# Altium footprint library LED.PcbLib: 3 footprints
Each footprint in its own frame and in the unit in brackets; x right, y up, seen from the top. Pads: shape width x height; smd on the part's side, far side on the other; paste and mask are expansions set on the pad; w line width, h text height; cw(c..) or ccw(c..) is an arc to the next point about the centre after c.
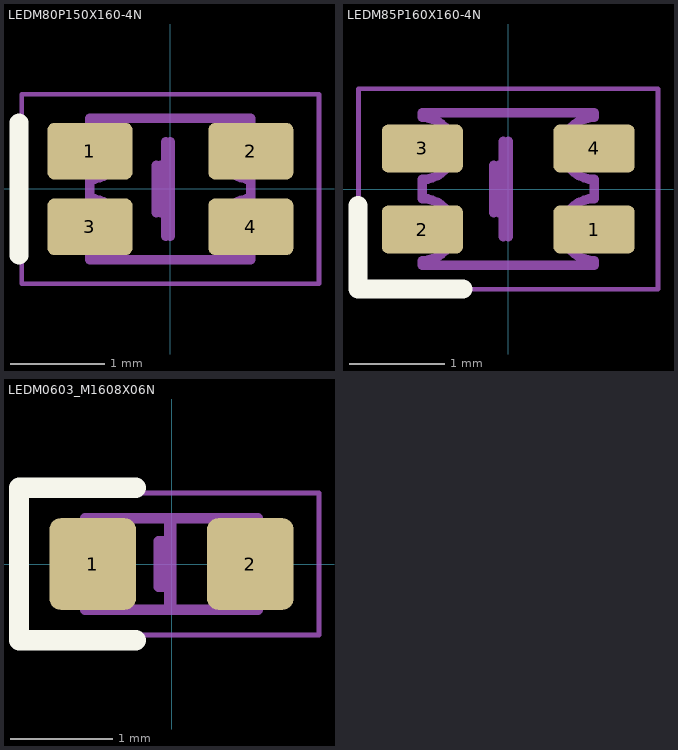
[diagram p0: the footprints below, top view; thin cyan lines are the x and y axes]

## LEDM80P150X160-4N [mm] "Chip Array, Concave, 4-Leads, Pitch 0.80mm,  Body 1.50x1.60mm,  IPC Medium Density"
height 0.55
pads (4):
  rrect25% 0.9x0.6 smd: 1(-0.85,0.4) 2(0.85,0.4) 3(-0.85,-0.4) 4(0.85,-0.4)
Top Overlay:
  lines w0.2: -1.6,-0.7 -1.6,0.7
Mechanical 13:
  lines w0.1: -0.85,-0.75 -0.85,-0.7 ccw(c-0.85,-0.4) -0.85,-0.1 -0.85,0.1 ccw(c-0.85,0.4) -0.85,0.7 -0.85,0.75 0.85,0.75 0.85,0.7 ccw(c0.85,0.4) 0.85,0.1 0.85,-0.1 ccw(c0.85,-0.4) 0.85,-0.7 0.85,-0.75 -0.85,-0.75
Mechanical 15:
  lines w0.05: -1.57,-1 -1.57,1 1.57,1 1.57,-1 -1.57,-1
  lines w0.1: -0.15,-0.25 -0.15,0.25 ; -0.1,-0.25 -0.1,0.25 ; -0.05,-0.5 -0.05,0.5 ; 0,-0.5 0,0.5
3D body "IN-S66TBTRGB.stp": height 0.55, standoff 0, extent -0.8,-0.75 0.8,0.75

## LEDM85P160X160-4N [mm] "Chip Array, Concave, 4-Leads, Pitch 0.85mm,  Body 1.60x1.60mm,  IPC Medium Density"
height 0.7
pads (4):
  rrect25% 0.85x0.5 smd: 1(0.9,-0.425) 2(-0.9,-0.425) 3(-0.9,0.425) 4(0.9,0.425)
Top Overlay:
  lines w0.2: -1.575,-0.175 -1.575,-1.05 -0.475,-1.05
Mechanical 13:
  lines w0.1: -0.9,-0.8 -0.9,-0.75 ccw(c-0.9,-0.425) -0.9,-0.1 -0.9,0.1 ccw(c-0.9,0.425) -0.9,0.75 -0.9,0.8 0.9,0.8 0.9,0.75 ccw(c0.9,0.425) 0.9,0.1 0.9,-0.1 ccw(c0.9,-0.425) 0.9,-0.75 0.9,-0.8 -0.9,-0.8
Mechanical 15:
  lines w0.05: -1.57,-1.05 -1.57,1.05 1.57,1.05 1.57,-1.05 -1.57,-1.05
  lines w0.1: -0.15,-0.25 -0.15,0.25 ; -0.1,-0.25 -0.1,0.25 ; -0.05,-0.5 -0.05,0.5 ; 0,-0.5 0,0.5
3D body "APTF1616.STEP": height 0.7, standoff 0, extent -0.8,-0.8 0.8,0.8

## LEDM0603_M1608X06N [mm] "Chip Resistor, 2-Leads, Body 1.60x0.80mm, IPC Medium Density"
height 0.55
pads (2):
  rrect25% 0.85x0.9 smd: 1(-0.775,0) 2(0.775,0)
Top Overlay:
  lines w0.2: -0.35,-0.75 -1.5,-0.75 -1.5,0.75 -0.35,0.75
Mechanical 13:
  lines w0.1: -0.85,-0.45 0.85,-0.45 0.85,0.45 -0.85,0.45 -0.85,-0.45
Mechanical 15:
  lines w0.05: -1.45,-0.7 1.45,-0.7 1.45,0.7 -1.45,0.7 -1.45,-0.7
  lines w0.1: -0.125,-0.225 -0.125,0.225 ; -0.1,-0.225 -0.1,0.225 ; -0.075,-0.225 -0.075,0.225 ; -0.05,-0.225 -0.05,0.225 ; -0.025,-0.45 -0.025,0.45 ; 0,-0.45 0,0.45
3D body "LEDM0603.STEP": height 1.1, standoff 0, extent -0.8,-0.4 0.8,0.4